# EAGLE library part SMD-BLACK-MALE-HEADER-VERT(11P-2.54) (library Seeed-OPL-Connector)
320020130
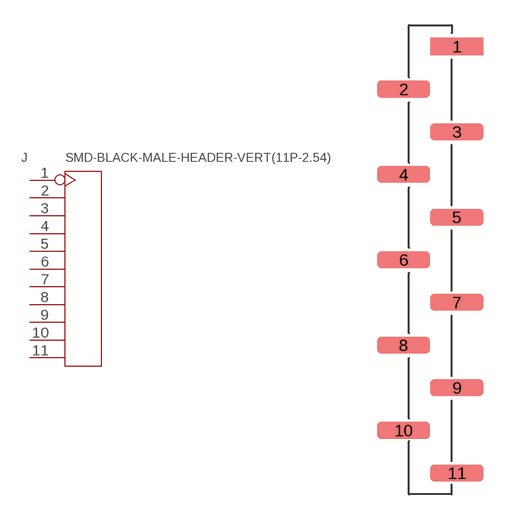
[diagram p105: symbol with the pads of H11-SMD-2.54; footprint H11-SMD-2.54]

Designator prefix J

## SMD-BLACK-MALE-HEADER-VERT(11P-2.54) (MPN: P125-1111A0BMB116D2; VALUE: 11p-smd-2.54)  [H11-SMD-2.54]
1  1
2  2
3  3
4  4
5  5
6  6
7  7
8  8
9  9
10  10
11  11

## Footprint H11-SMD-2.54 (pad centres in mm)
smd 3.17 x 1.02: 1 1.585,12.7; 2 -1.585,10.16; 3 1.585,7.62; 4 -1.585,5.08; 5 1.585,2.54; 6 -1.585,0; 7 1.585,-2.54; 8 -1.585,-5.08; 9 1.585,-7.62; 10 -1.585,-10.16; 11 1.585,-12.7